# Altium footprint library TH Optoelectronics.PcbLib: 22 footprints (part 2 of 4)
Each footprint in its own frame and in the unit in brackets; x right, y up, seen from the top. Pads: shape width x height; smd on the part's side, far side on the other; paste and mask are expansions set on the pad; w line width, h text height; cw(c..) or ccw(c..) is an arc to the next point about the centre after c.
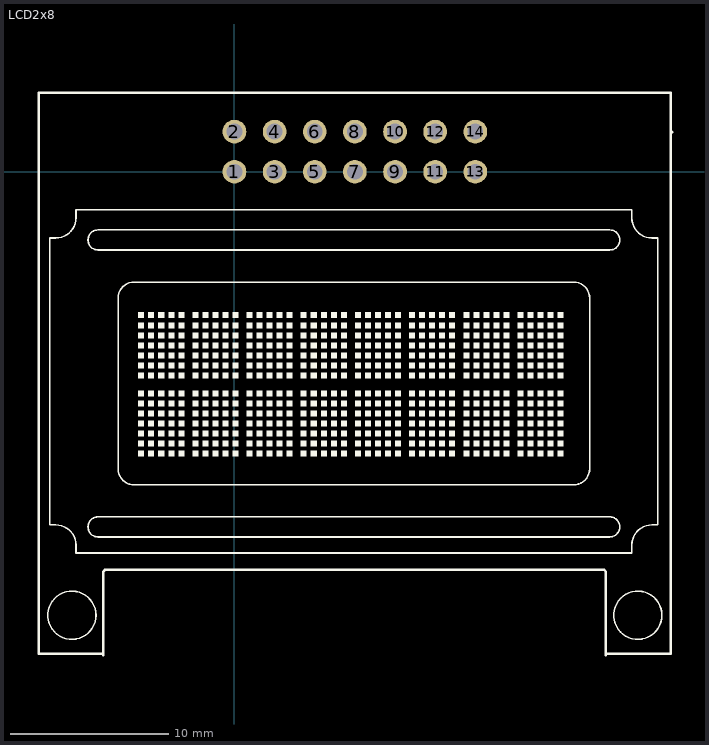
[diagram p1: the footprint, top view; thin cyan lines are the x and y axes]

## LCD2x8 [mm]
pads (14):
  round 1.5 hole 1: 1(0,0) 2(0,2.54) 3(2.54,0) 4(2.54,2.54) 5(5.08,0) 6(5.08,2.54) 7(7.62,0) 8(7.62,2.54) 9(10.16,0) 10(10.16,2.54) 11(12.7,0) 12(12.7,2.54) 13(15.24,0) 14(15.24,2.54)
Top Overlay:
  drawing of 633 lines, arcs and shapes, not listed
3D body: height 4.57, standoff 4.32, extent 6.858,1.778 8.376,3.299
3D body: height 6.1, standoff -3.05, extent 7.315,2.21 7.925,2.87
3D body: height 4.57, standoff 4.32, extent 9.398,1.778 10.916,3.299
3D body: height 6.1, standoff -3.05, extent 9.855,2.21 10.465,2.87
3D body: height 4.57, standoff 4.32, extent 11.938,1.778 13.456,3.299
3D body: height 6.1, standoff -3.05, extent 12.395,2.21 13.005,2.87
3D body: height 4.57, standoff 4.32, extent 14.478,1.778 15.996,3.299
3D body: height 6.1, standoff -3.05, extent 14.935,2.21 15.545,2.87
3D body: height 4.57, standoff 4.32, extent 14.478,-0.762 15.996,0.759
3D body: height 6.1, standoff -3.05, extent 14.935,-0.33 15.545,0.33
3D body: height 4.57, standoff 4.32, extent 11.938,-0.762 13.456,0.759
3D body: height 6.1, standoff -3.05, extent 12.395,-0.33 13.005,0.33
3D body: height 4.57, standoff 4.32, extent 9.398,-0.762 10.916,0.759
3D body: height 6.1, standoff -3.05, extent 9.855,-0.33 10.465,0.33
3D body: height 4.57, standoff 4.32, extent 6.858,-0.762 8.376,0.759
3D body: height 6.1, standoff -3.05, extent 7.315,-0.33 7.925,0.33
3D body: height 4.57, standoff 4.32, extent -0.762,-0.762 0.756,0.759
3D body: height 6.1, standoff -3.05, extent -0.305,-0.33 0.305,0.33
3D body: height 4.57, standoff 4.32, extent 1.778,-0.762 3.296,0.759
3D body: height 6.1, standoff -3.05, extent 2.235,-0.33 2.845,0.33
3D body: height 4.57, standoff 4.32, extent 4.318,-0.762 5.836,0.759
3D body: height 6.1, standoff -3.05, extent 4.775,-0.33 5.385,0.33
3D body: height 4.57, standoff 4.32, extent 4.318,1.778 5.836,3.299
3D body: height 6.1, standoff -3.05, extent 4.775,2.21 5.385,2.87
3D body: height 4.57, standoff 4.32, extent 1.778,1.778 3.296,3.299
3D body: height 6.1, standoff -3.05, extent 2.235,2.21 2.845,2.87
3D body: height 6.1, standoff -3.05, extent -0.305,2.21 0.305,2.87
3D body: height 4.57, standoff 4.32, extent -0.762,1.778 0.756,3.299
3D body: height 7.62, standoff 3.05, extent -11.252,-23.927 26.314,-2.946
3D body: height 4.3, standoff 2.7, extent -12.421,-25.222 27.584,4.978
3D body: height 4.32, standoff 3.05, extent -12.482,-30.516 27.61,-2.794
3D body: height 8.13, standoff 4.32, extent -11.684,-24.13 26.797,-2.413
3D body: height 7.65, standoff 7.62, extent -6.096,-9.271 -5.715,-8.89
3D body: height 7.65, standoff 7.62, extent -5.461,-9.271 -5.08,-8.89
3D body: height 7.65, standoff 7.62, extent -4.826,-9.271 -4.445,-8.89
3D body: height 7.65, standoff 7.62, extent -4.191,-9.271 -3.81,-8.89
3D body: height 7.65, standoff 7.62, extent -3.556,-9.271 -3.175,-8.89
3D body: height 7.65, standoff 7.62, extent -3.556,-9.906 -3.175,-9.525
3D body: height 7.65, standoff 7.62, extent -4.191,-9.906 -3.81,-9.525
3D body: height 7.65, standoff 7.62, extent -4.826,-9.906 -4.445,-9.525
3D body: height 7.65, standoff 7.62, extent -5.461,-9.906 -5.08,-9.525
3D body: height 7.65, standoff 7.62, extent -6.096,-9.906 -5.715,-9.525
3D body: height 7.65, standoff 7.62, extent -3.556,-10.541 -3.175,-10.16
3D body: height 7.65, standoff 7.62, extent -4.191,-10.541 -3.81,-10.16
3D body: height 7.65, standoff 7.62, extent -4.826,-10.541 -4.445,-10.16
3D body: height 7.65, standoff 7.62, extent -5.461,-10.541 -5.08,-10.16
3D body: height 7.65, standoff 7.62, extent -6.096,-10.541 -5.715,-10.16
3D body: height 7.65, standoff 7.62, extent -3.556,-11.176 -3.175,-10.795
3D body: height 7.65, standoff 7.62, extent -4.191,-11.176 -3.81,-10.795
3D body: height 7.65, standoff 7.62, extent -4.826,-11.176 -4.445,-10.795
3D body: height 7.65, standoff 7.62, extent -5.461,-11.176 -5.08,-10.795
3D body: height 7.65, standoff 7.62, extent -6.096,-11.176 -5.715,-10.795
3D body: height 7.65, standoff 7.62, extent -3.556,-11.811 -3.175,-11.43
3D body: height 7.65, standoff 7.62, extent -4.191,-11.811 -3.81,-11.43
3D body: height 7.65, standoff 7.62, extent -4.826,-11.811 -4.445,-11.43
3D body: height 7.65, standoff 7.62, extent -5.461,-11.811 -5.08,-11.43
3D body: height 7.65, standoff 7.62, extent -6.096,-11.811 -5.715,-11.43
3D body: height 7.65, standoff 7.62, extent -3.556,-12.446 -3.175,-12.065
3D body: height 7.65, standoff 7.62, extent -4.191,-12.446 -3.81,-12.065
3D body: height 7.65, standoff 7.62, extent -4.826,-12.446 -4.445,-12.065
3D body: height 7.65, standoff 7.62, extent -5.461,-12.446 -5.08,-12.065
3D body: height 7.65, standoff 7.62, extent -6.096,-12.446 -5.715,-12.065
3D body: height 7.65, standoff 7.62, extent -3.556,-13.081 -3.175,-12.7
3D body: height 7.65, standoff 7.62, extent -4.191,-13.081 -3.81,-12.7
3D body: height 7.65, standoff 7.62, extent -4.826,-13.081 -4.445,-12.7
3D body: height 7.65, standoff 7.62, extent -5.461,-13.081 -5.08,-12.7
3D body: height 7.65, standoff 7.62, extent -6.096,-13.081 -5.715,-12.7
3D body: height 7.65, standoff 7.62, extent -2.667,-13.081 -2.286,-12.7
3D body: height 7.65, standoff 7.62, extent -2.032,-13.081 -1.651,-12.7
3D body: height 7.65, standoff 7.62, extent -1.397,-13.081 -1.016,-12.7
3D body: height 7.65, standoff 7.62, extent -0.762,-13.081 -0.381,-12.7
3D body: height 7.65, standoff 7.62, extent -0.127,-13.081 0.254,-12.7
3D body: height 7.65, standoff 7.62, extent -2.667,-12.446 -2.286,-12.065
3D body: height 7.65, standoff 7.62, extent -2.032,-12.446 -1.651,-12.065
3D body: height 7.65, standoff 7.62, extent -1.397,-12.446 -1.016,-12.065
3D body: height 7.65, standoff 7.62, extent -0.762,-12.446 -0.381,-12.065
3D body: height 7.65, standoff 7.62, extent -0.127,-12.446 0.254,-12.065
3D body: height 7.65, standoff 7.62, extent -2.667,-11.811 -2.286,-11.43
3D body: height 7.65, standoff 7.62, extent -2.032,-11.811 -1.651,-11.43
3D body: height 7.65, standoff 7.62, extent -1.397,-11.811 -1.016,-11.43
3D body: height 7.65, standoff 7.62, extent -0.762,-11.811 -0.381,-11.43
3D body: height 7.65, standoff 7.62, extent -0.127,-11.811 0.254,-11.43
3D body: height 7.65, standoff 7.62, extent -2.667,-11.176 -2.286,-10.795
3D body: height 7.65, standoff 7.62, extent -2.032,-11.176 -1.651,-10.795
3D body: height 7.65, standoff 7.62, extent -1.397,-11.176 -1.016,-10.795
3D body: height 7.65, standoff 7.62, extent -0.762,-11.176 -0.381,-10.795
3D body: height 7.65, standoff 7.62, extent -0.127,-11.176 0.254,-10.795
3D body: height 7.65, standoff 7.62, extent -2.667,-10.541 -2.286,-10.16
3D body: height 7.65, standoff 7.62, extent -2.032,-10.541 -1.651,-10.16
3D body: height 7.65, standoff 7.62, extent -1.397,-10.541 -1.016,-10.16
3D body: height 7.65, standoff 7.62, extent -0.762,-10.541 -0.381,-10.16
3D body: height 7.65, standoff 7.62, extent -0.127,-10.541 0.254,-10.16
3D body: height 7.65, standoff 7.62, extent -2.667,-9.906 -2.286,-9.525
3D body: height 7.65, standoff 7.62, extent -2.032,-9.906 -1.651,-9.525
3D body: height 7.65, standoff 7.62, extent -1.397,-9.906 -1.016,-9.525
3D body: height 7.65, standoff 7.62, extent -0.762,-9.906 -0.381,-9.525
3D body: height 7.65, standoff 7.62, extent -0.127,-9.906 0.254,-9.525
3D body: height 7.65, standoff 7.62, extent -0.127,-9.271 0.254,-8.89
3D body: height 7.65, standoff 7.62, extent -0.762,-9.271 -0.381,-8.89
3D body: height 7.65, standoff 7.62, extent -1.397,-9.271 -1.016,-8.89
3D body: height 7.65, standoff 7.62, extent -2.032,-9.271 -1.651,-8.89
3D body: height 7.65, standoff 7.62, extent -2.667,-9.271 -2.286,-8.89
3D body: height 7.65, standoff 7.62, extent 0.762,-13.081 1.143,-12.7
3D body: height 7.65, standoff 7.62, extent 1.397,-13.081 1.778,-12.7
3D body: height 7.65, standoff 7.62, extent 2.032,-13.081 2.413,-12.7
3D body: height 7.65, standoff 7.62, extent 2.667,-13.081 3.048,-12.7
3D body: height 7.65, standoff 7.62, extent 3.302,-13.081 3.683,-12.7
3D body: height 7.65, standoff 7.62, extent 0.762,-12.446 1.143,-12.065
3D body: height 7.65, standoff 7.62, extent 1.397,-12.446 1.778,-12.065
3D body: height 7.65, standoff 7.62, extent 2.032,-12.446 2.413,-12.065
3D body: height 7.65, standoff 7.62, extent 2.667,-12.446 3.048,-12.065
3D body: height 7.65, standoff 7.62, extent 3.302,-12.446 3.683,-12.065
3D body: height 7.65, standoff 7.62, extent 0.762,-11.811 1.143,-11.43
3D body: height 7.65, standoff 7.62, extent 1.397,-11.811 1.778,-11.43
3D body: height 7.65, standoff 7.62, extent 2.032,-11.811 2.413,-11.43
3D body: height 7.65, standoff 7.62, extent 2.667,-11.811 3.048,-11.43
3D body: height 7.65, standoff 7.62, extent 3.302,-11.811 3.683,-11.43
3D body: height 7.65, standoff 7.62, extent 0.762,-11.176 1.143,-10.795
3D body: height 7.65, standoff 7.62, extent 1.397,-11.176 1.778,-10.795
3D body: height 7.65, standoff 7.62, extent 2.032,-11.176 2.413,-10.795
3D body: height 7.65, standoff 7.62, extent 2.667,-11.176 3.048,-10.795
3D body: height 7.65, standoff 7.62, extent 3.302,-11.176 3.683,-10.795
3D body: height 7.65, standoff 7.62, extent 0.762,-10.541 1.143,-10.16
3D body: height 7.65, standoff 7.62, extent 1.397,-10.541 1.778,-10.16
3D body: height 7.65, standoff 7.62, extent 2.032,-10.541 2.413,-10.16
3D body: height 7.65, standoff 7.62, extent 2.667,-10.541 3.048,-10.16
3D body: height 7.65, standoff 7.62, extent 3.302,-10.541 3.683,-10.16
3D body: height 7.65, standoff 7.62, extent 0.762,-9.906 1.143,-9.525
3D body: height 7.65, standoff 7.62, extent 1.397,-9.906 1.778,-9.525
3D body: height 7.65, standoff 7.62, extent 2.032,-9.906 2.413,-9.525
3D body: height 7.65, standoff 7.62, extent 2.667,-9.906 3.048,-9.525
3D body: height 7.65, standoff 7.62, extent 3.302,-9.906 3.683,-9.525
3D body: height 7.65, standoff 7.62, extent 3.302,-9.271 3.683,-8.89
3D body: height 7.65, standoff 7.62, extent 2.667,-9.271 3.048,-8.89
3D body: height 7.65, standoff 7.62, extent 2.032,-9.271 2.413,-8.89
3D body: height 7.65, standoff 7.62, extent 1.397,-9.271 1.778,-8.89
3D body: height 7.65, standoff 7.62, extent 0.762,-9.271 1.143,-8.89
3D body: height 7.65, standoff 7.62, extent 4.191,-13.081 4.572,-12.7
3D body: height 7.65, standoff 7.62, extent 4.826,-13.081 5.207,-12.7
3D body: height 7.65, standoff 7.62, extent 5.461,-13.081 5.842,-12.7
3D body: height 7.65, standoff 7.62, extent 6.096,-13.081 6.477,-12.7
3D body: height 7.65, standoff 7.62, extent 6.731,-13.081 7.112,-12.7
3D body: height 7.65, standoff 7.62, extent 4.191,-12.446 4.572,-12.065
3D body: height 7.65, standoff 7.62, extent 4.826,-12.446 5.207,-12.065
3D body: height 7.65, standoff 7.62, extent 5.461,-12.446 5.842,-12.065
3D body: height 7.65, standoff 7.62, extent 6.096,-12.446 6.477,-12.065
3D body: height 7.65, standoff 7.62, extent 6.731,-12.446 7.112,-12.065
3D body: height 7.65, standoff 7.62, extent 4.191,-11.811 4.572,-11.43
3D body: height 7.65, standoff 7.62, extent 4.826,-11.811 5.207,-11.43
3D body: height 7.65, standoff 7.62, extent 5.461,-11.811 5.842,-11.43
3D body: height 7.65, standoff 7.62, extent 6.096,-11.811 6.477,-11.43
3D body: height 7.65, standoff 7.62, extent 6.731,-11.811 7.112,-11.43
3D body: height 7.65, standoff 7.62, extent 4.191,-11.176 4.572,-10.795
3D body: height 7.65, standoff 7.62, extent 4.826,-11.176 5.207,-10.795
3D body: height 7.65, standoff 7.62, extent 5.461,-11.176 5.842,-10.795
3D body: height 7.65, standoff 7.62, extent 6.096,-11.176 6.477,-10.795
3D body: height 7.65, standoff 7.62, extent 6.731,-11.176 7.112,-10.795
3D body: height 7.65, standoff 7.62, extent 4.191,-10.541 4.572,-10.16
3D body: height 7.65, standoff 7.62, extent 4.826,-10.541 5.207,-10.16
3D body: height 7.65, standoff 7.62, extent 5.461,-10.541 5.842,-10.16
3D body: height 7.65, standoff 7.62, extent 6.096,-10.541 6.477,-10.16
3D body: height 7.65, standoff 7.62, extent 6.731,-10.541 7.112,-10.16
3D body: height 7.65, standoff 7.62, extent 4.191,-9.906 4.572,-9.525
3D body: height 7.65, standoff 7.62, extent 4.826,-9.906 5.207,-9.525
3D body: height 7.65, standoff 7.62, extent 5.461,-9.906 5.842,-9.525
3D body: height 7.65, standoff 7.62, extent 6.096,-9.906 6.477,-9.525
3D body: height 7.65, standoff 7.62, extent 6.731,-9.906 7.112,-9.525
3D body: height 7.65, standoff 7.62, extent 6.731,-9.271 7.112,-8.89
3D body: height 7.65, standoff 7.62, extent 6.096,-9.271 6.477,-8.89
3D body: height 7.65, standoff 7.62, extent 5.461,-9.271 5.842,-8.89
3D body: height 7.65, standoff 7.62, extent 4.826,-9.271 5.207,-8.89
3D body: height 7.65, standoff 7.62, extent 4.191,-9.271 4.572,-8.89
3D body: height 7.65, standoff 7.62, extent 4.191,-14.224 4.572,-13.843
3D body: height 7.65, standoff 7.62, extent 4.826,-14.224 5.207,-13.843
3D body: height 7.65, standoff 7.62, extent 5.461,-14.224 5.842,-13.843
3D body: height 7.65, standoff 7.62, extent 6.096,-14.224 6.477,-13.843
3D body: height 7.65, standoff 7.62, extent 6.731,-14.224 7.112,-13.843
3D body: height 7.65, standoff 7.62, extent 6.731,-14.859 7.112,-14.478
3D body: height 7.65, standoff 7.62, extent 6.096,-14.859 6.477,-14.478
3D body: height 7.65, standoff 7.62, extent 5.461,-14.859 5.842,-14.478
3D body: height 7.65, standoff 7.62, extent 4.826,-14.859 5.207,-14.478
3D body: height 7.65, standoff 7.62, extent 4.191,-14.859 4.572,-14.478
3D body: height 7.65, standoff 7.62, extent 6.731,-15.494 7.112,-15.113
3D body: height 7.65, standoff 7.62, extent 6.096,-15.494 6.477,-15.113
3D body: height 7.65, standoff 7.62, extent 5.461,-15.494 5.842,-15.113
3D body: height 7.65, standoff 7.62, extent 4.826,-15.494 5.207,-15.113
3D body: height 7.65, standoff 7.62, extent 4.191,-15.494 4.572,-15.113
3D body: height 7.65, standoff 7.62, extent 6.731,-16.129 7.112,-15.748
3D body: height 7.65, standoff 7.62, extent 6.096,-16.129 6.477,-15.748
3D body: height 7.65, standoff 7.62, extent 5.461,-16.129 5.842,-15.748
3D body: height 7.65, standoff 7.62, extent 4.826,-16.129 5.207,-15.748
3D body: height 7.65, standoff 7.62, extent 4.191,-16.129 4.572,-15.748
3D body: height 7.65, standoff 7.62, extent 6.731,-16.764 7.112,-16.383
3D body: height 7.65, standoff 7.62, extent 6.096,-16.764 6.477,-16.383
3D body: height 7.65, standoff 7.62, extent 5.461,-16.764 5.842,-16.383
3D body: height 7.65, standoff 7.62, extent 4.826,-16.764 5.207,-16.383
3D body: height 7.65, standoff 7.62, extent 4.191,-16.764 4.572,-16.383
3D body: height 7.65, standoff 7.62, extent 6.731,-17.399 7.112,-17.018
3D body: height 7.65, standoff 7.62, extent 6.096,-17.399 6.477,-17.018
3D body: height 7.65, standoff 7.62, extent 5.461,-17.399 5.842,-17.018
3D body: height 7.65, standoff 7.62, extent 4.826,-17.399 5.207,-17.018
3D body: height 7.65, standoff 7.62, extent 4.191,-17.399 4.572,-17.018
3D body: height 7.65, standoff 7.62, extent 6.731,-18.034 7.112,-17.653
3D body: height 7.65, standoff 7.62, extent 6.096,-18.034 6.477,-17.653
3D body: height 7.65, standoff 7.62, extent 5.461,-18.034 5.842,-17.653
3D body: height 7.65, standoff 7.62, extent 4.826,-18.034 5.207,-17.653
3D body: height 7.65, standoff 7.62, extent 4.191,-18.034 4.572,-17.653
3D body: height 7.65, standoff 7.62, extent 0.762,-14.224 1.143,-13.843
3D body: height 7.65, standoff 7.62, extent 1.397,-14.224 1.778,-13.843
3D body: height 7.65, standoff 7.62, extent 2.032,-14.224 2.413,-13.843
3D body: height 7.65, standoff 7.62, extent 2.667,-14.224 3.048,-13.843
3D body: height 7.65, standoff 7.62, extent 3.302,-14.224 3.683,-13.843
3D body: height 7.65, standoff 7.62, extent 3.302,-14.859 3.683,-14.478
3D body: height 7.65, standoff 7.62, extent 2.667,-14.859 3.048,-14.478
3D body: height 7.65, standoff 7.62, extent 2.032,-14.859 2.413,-14.478
3D body: height 7.65, standoff 7.62, extent 1.397,-14.859 1.778,-14.478
3D body: height 7.65, standoff 7.62, extent 0.762,-14.859 1.143,-14.478
3D body: height 7.65, standoff 7.62, extent 3.302,-15.494 3.683,-15.113
3D body: height 7.65, standoff 7.62, extent 2.667,-15.494 3.048,-15.113
3D body: height 7.65, standoff 7.62, extent 2.032,-15.494 2.413,-15.113
3D body: height 7.65, standoff 7.62, extent 1.397,-15.494 1.778,-15.113
3D body: height 7.65, standoff 7.62, extent 0.762,-15.494 1.143,-15.113
3D body: height 7.65, standoff 7.62, extent 3.302,-16.129 3.683,-15.748
3D body: height 7.65, standoff 7.62, extent 2.667,-16.129 3.048,-15.748
3D body: height 7.65, standoff 7.62, extent 2.032,-16.129 2.413,-15.748
3D body: height 7.65, standoff 7.62, extent 1.397,-16.129 1.778,-15.748
3D body: height 7.65, standoff 7.62, extent 0.762,-16.129 1.143,-15.748
3D body: height 7.65, standoff 7.62, extent 3.302,-16.764 3.683,-16.383
3D body: height 7.65, standoff 7.62, extent 2.667,-16.764 3.048,-16.383
3D body: height 7.65, standoff 7.62, extent 2.032,-16.764 2.413,-16.383
3D body: height 7.65, standoff 7.62, extent 1.397,-16.764 1.778,-16.383
3D body: height 7.65, standoff 7.62, extent 0.762,-16.764 1.143,-16.383
3D body: height 7.65, standoff 7.62, extent 3.302,-17.399 3.683,-17.018
3D body: height 7.65, standoff 7.62, extent 2.667,-17.399 3.048,-17.018
3D body: height 7.65, standoff 7.62, extent 2.032,-17.399 2.413,-17.018
3D body: height 7.65, standoff 7.62, extent 1.397,-17.399 1.778,-17.018
3D body: height 7.65, standoff 7.62, extent 0.762,-17.399 1.143,-17.018
3D body: height 7.65, standoff 7.62, extent 3.302,-18.034 3.683,-17.653
3D body: height 7.65, standoff 7.62, extent 2.667,-18.034 3.048,-17.653
3D body: height 7.65, standoff 7.62, extent 2.032,-18.034 2.413,-17.653
3D body: height 7.65, standoff 7.62, extent 1.397,-18.034 1.778,-17.653
3D body: height 7.65, standoff 7.62, extent 0.762,-18.034 1.143,-17.653
3D body: height 7.65, standoff 7.62, extent -2.667,-14.224 -2.286,-13.843
3D body: height 7.65, standoff 7.62, extent -2.032,-14.224 -1.651,-13.843
3D body: height 7.65, standoff 7.62, extent -1.397,-14.224 -1.016,-13.843
3D body: height 7.65, standoff 7.62, extent -0.762,-14.224 -0.381,-13.843
3D body: height 7.65, standoff 7.62, extent -0.127,-14.224 0.254,-13.843
3D body: height 7.65, standoff 7.62, extent -0.127,-14.859 0.254,-14.478
3D body: height 7.65, standoff 7.62, extent -0.762,-14.859 -0.381,-14.478
3D body: height 7.65, standoff 7.62, extent -1.397,-14.859 -1.016,-14.478
3D body: height 7.65, standoff 7.62, extent -2.032,-14.859 -1.651,-14.478
3D body: height 7.65, standoff 7.62, extent -2.667,-14.859 -2.286,-14.478
3D body: height 7.65, standoff 7.62, extent -0.127,-15.494 0.254,-15.113
3D body: height 7.65, standoff 7.62, extent -0.762,-15.494 -0.381,-15.113
3D body: height 7.65, standoff 7.62, extent -1.397,-15.494 -1.016,-15.113
3D body: height 7.65, standoff 7.62, extent -2.032,-15.494 -1.651,-15.113
3D body: height 7.65, standoff 7.62, extent -2.667,-15.494 -2.286,-15.113
3D body: height 7.65, standoff 7.62, extent -0.127,-16.129 0.254,-15.748
3D body: height 7.65, standoff 7.62, extent -0.762,-16.129 -0.381,-15.748
3D body: height 7.65, standoff 7.62, extent -1.397,-16.129 -1.016,-15.748
3D body: height 7.65, standoff 7.62, extent -2.032,-16.129 -1.651,-15.748
3D body: height 7.65, standoff 7.62, extent -2.667,-16.129 -2.286,-15.748
3D body: height 7.65, standoff 7.62, extent -0.127,-16.764 0.254,-16.383
3D body: height 7.65, standoff 7.62, extent -0.762,-16.764 -0.381,-16.383
3D body: height 7.65, standoff 7.62, extent -1.397,-16.764 -1.016,-16.383
3D body: height 7.65, standoff 7.62, extent -2.032,-16.764 -1.651,-16.383
3D body: height 7.65, standoff 7.62, extent -2.667,-16.764 -2.286,-16.383
3D body: height 7.65, standoff 7.62, extent -0.127,-17.399 0.254,-17.018
3D body: height 7.65, standoff 7.62, extent -0.762,-17.399 -0.381,-17.018
3D body: height 7.65, standoff 7.62, extent -1.397,-17.399 -1.016,-17.018
3D body: height 7.65, standoff 7.62, extent -2.032,-17.399 -1.651,-17.018
3D body: height 7.65, standoff 7.62, extent -2.667,-17.399 -2.286,-17.018
3D body: height 7.65, standoff 7.62, extent -0.127,-18.034 0.254,-17.653
3D body: height 7.65, standoff 7.62, extent -0.762,-18.034 -0.381,-17.653
3D body: height 7.65, standoff 7.62, extent -1.397,-18.034 -1.016,-17.653
3D body: height 7.65, standoff 7.62, extent -2.032,-18.034 -1.651,-17.653
3D body: height 7.65, standoff 7.62, extent -2.667,-18.034 -2.286,-17.653
3D body: height 7.65, standoff 7.62, extent -6.096,-18.034 -5.715,-17.653
3D body: height 7.65, standoff 7.62, extent -5.461,-18.034 -5.08,-17.653
3D body: height 7.65, standoff 7.62, extent -4.826,-18.034 -4.445,-17.653
3D body: height 7.65, standoff 7.62, extent -4.191,-18.034 -3.81,-17.653
3D body: height 7.65, standoff 7.62, extent -3.556,-18.034 -3.175,-17.653
3D body: height 7.65, standoff 7.62, extent -6.096,-17.399 -5.715,-17.018
3D body: height 7.65, standoff 7.62, extent -5.461,-17.399 -5.08,-17.018
3D body: height 7.65, standoff 7.62, extent -4.826,-17.399 -4.445,-17.018
3D body: height 7.65, standoff 7.62, extent -4.191,-17.399 -3.81,-17.018
3D body: height 7.65, standoff 7.62, extent -3.556,-17.399 -3.175,-17.018
3D body: height 7.65, standoff 7.62, extent -6.096,-16.764 -5.715,-16.383
3D body: height 7.65, standoff 7.62, extent -5.461,-16.764 -5.08,-16.383
3D body: height 7.65, standoff 7.62, extent -4.826,-16.764 -4.445,-16.383
3D body: height 7.65, standoff 7.62, extent -4.191,-16.764 -3.81,-16.383
3D body: height 7.65, standoff 7.62, extent -3.556,-16.764 -3.175,-16.383
3D body: height 7.65, standoff 7.62, extent -6.096,-16.129 -5.715,-15.748
3D body: height 7.65, standoff 7.62, extent -5.461,-16.129 -5.08,-15.748
3D body: height 7.65, standoff 7.62, extent -4.826,-16.129 -4.445,-15.748
3D body: height 7.65, standoff 7.62, extent -4.191,-16.129 -3.81,-15.748
3D body: height 7.65, standoff 7.62, extent -3.556,-16.129 -3.175,-15.748
3D body: height 7.65, standoff 7.62, extent -6.096,-15.494 -5.715,-15.113
3D body: height 7.65, standoff 7.62, extent -5.461,-15.494 -5.08,-15.113
3D body: height 7.65, standoff 7.62, extent -4.826,-15.494 -4.445,-15.113
3D body: height 7.65, standoff 7.62, extent -4.191,-15.494 -3.81,-15.113
3D body: height 7.65, standoff 7.62, extent -3.556,-15.494 -3.175,-15.113
3D body: height 7.65, standoff 7.62, extent -6.096,-14.859 -5.715,-14.478
3D body: height 7.65, standoff 7.62, extent -5.461,-14.859 -5.08,-14.478
3D body: height 7.65, standoff 7.62, extent -4.826,-14.859 -4.445,-14.478
3D body: height 7.65, standoff 7.62, extent -4.191,-14.859 -3.81,-14.478
3D body: height 7.65, standoff 7.62, extent -3.556,-14.859 -3.175,-14.478
3D body: height 7.65, standoff 7.62, extent -3.556,-14.224 -3.175,-13.843
3D body: height 7.65, standoff 7.62, extent -4.191,-14.224 -3.81,-13.843
3D body: height 7.65, standoff 7.62, extent -4.826,-14.224 -4.445,-13.843
3D body: height 7.65, standoff 7.62, extent -5.461,-14.224 -5.08,-13.843
3D body: height 7.65, standoff 7.62, extent -6.096,-14.224 -5.715,-13.843
3D body: height 7.65, standoff 7.62, extent 17.907,-14.224 18.288,-13.843
3D body: height 7.65, standoff 7.62, extent 18.542,-14.224 18.923,-13.843
3D body: height 7.65, standoff 7.62, extent 19.177,-14.224 19.558,-13.843
3D body: height 7.65, standoff 7.62, extent 19.812,-14.224 20.193,-13.843
3D body: height 7.65, standoff 7.62, extent 20.447,-14.224 20.828,-13.843
3D body: height 7.65, standoff 7.62, extent 20.447,-14.859 20.828,-14.478
3D body: height 7.65, standoff 7.62, extent 19.812,-14.859 20.193,-14.478
3D body: height 7.65, standoff 7.62, extent 19.177,-14.859 19.558,-14.478
3D body: height 7.65, standoff 7.62, extent 18.542,-14.859 18.923,-14.478
3D body: height 7.65, standoff 7.62, extent 17.907,-14.859 18.288,-14.478
3D body: height 7.65, standoff 7.62, extent 20.447,-15.494 20.828,-15.113
3D body: height 7.65, standoff 7.62, extent 19.812,-15.494 20.193,-15.113
3D body: height 7.65, standoff 7.62, extent 19.177,-15.494 19.558,-15.113
3D body: height 7.65, standoff 7.62, extent 18.542,-15.494 18.923,-15.113
3D body: height 7.65, standoff 7.62, extent 17.907,-15.494 18.288,-15.113
3D body: height 7.65, standoff 7.62, extent 20.447,-16.129 20.828,-15.748
3D body: height 7.65, standoff 7.62, extent 19.812,-16.129 20.193,-15.748
3D body: height 7.65, standoff 7.62, extent 19.177,-16.129 19.558,-15.748
3D body: height 7.65, standoff 7.62, extent 18.542,-16.129 18.923,-15.748
3D body: height 7.65, standoff 7.62, extent 17.907,-16.129 18.288,-15.748
3D body: height 7.65, standoff 7.62, extent 20.447,-16.764 20.828,-16.383
3D body: height 7.65, standoff 7.62, extent 19.812,-16.764 20.193,-16.383
3D body: height 7.65, standoff 7.62, extent 19.177,-16.764 19.558,-16.383
3D body: height 7.65, standoff 7.62, extent 18.542,-16.764 18.923,-16.383
3D body: height 7.65, standoff 7.62, extent 17.907,-16.764 18.288,-16.383
3D body: height 7.65, standoff 7.62, extent 20.447,-17.399 20.828,-17.018
3D body: height 7.65, standoff 7.62, extent 19.812,-17.399 20.193,-17.018
3D body: height 7.65, standoff 7.62, extent 19.177,-17.399 19.558,-17.018
3D body: height 7.65, standoff 7.62, extent 18.542,-17.399 18.923,-17.018
3D body: height 7.65, standoff 7.62, extent 17.907,-17.399 18.288,-17.018
3D body: height 7.65, standoff 7.62, extent 20.447,-18.034 20.828,-17.653
3D body: height 7.65, standoff 7.62, extent 19.812,-18.034 20.193,-17.653
3D body: height 7.65, standoff 7.62, extent 19.177,-18.034 19.558,-17.653
3D body: height 7.65, standoff 7.62, extent 18.542,-18.034 18.923,-17.653
3D body: height 7.65, standoff 7.62, extent 17.907,-18.034 18.288,-17.653
3D body: height 7.65, standoff 7.62, extent 14.478,-14.224 14.859,-13.843
3D body: height 7.65, standoff 7.62, extent 15.113,-14.224 15.494,-13.843
3D body: height 7.65, standoff 7.62, extent 15.748,-14.224 16.129,-13.843
3D body: height 7.65, standoff 7.62, extent 16.383,-14.224 16.764,-13.843
3D body: height 7.65, standoff 7.62, extent 17.018,-14.224 17.399,-13.843
3D body: height 7.65, standoff 7.62, extent 17.018,-14.859 17.399,-14.478
3D body: height 7.65, standoff 7.62, extent 16.383,-14.859 16.764,-14.478
3D body: height 7.65, standoff 7.62, extent 15.748,-14.859 16.129,-14.478
3D body: height 7.65, standoff 7.62, extent 15.113,-14.859 15.494,-14.478
3D body: height 7.65, standoff 7.62, extent 14.478,-14.859 14.859,-14.478
3D body: height 7.65, standoff 7.62, extent 17.018,-15.494 17.399,-15.113
3D body: height 7.65, standoff 7.62, extent 16.383,-15.494 16.764,-15.113
3D body: height 7.65, standoff 7.62, extent 15.748,-15.494 16.129,-15.113
3D body: height 7.65, standoff 7.62, extent 15.113,-15.494 15.494,-15.113
3D body: height 7.65, standoff 7.62, extent 14.478,-15.494 14.859,-15.113
3D body: height 7.65, standoff 7.62, extent 17.018,-16.129 17.399,-15.748
3D body: height 7.65, standoff 7.62, extent 16.383,-16.129 16.764,-15.748
3D body: height 7.65, standoff 7.62, extent 15.748,-16.129 16.129,-15.748
3D body: height 7.65, standoff 7.62, extent 15.113,-16.129 15.494,-15.748
3D body: height 7.65, standoff 7.62, extent 14.478,-16.129 14.859,-15.748
3D body: height 7.65, standoff 7.62, extent 17.018,-16.764 17.399,-16.383
3D body: height 7.65, standoff 7.62, extent 16.383,-16.764 16.764,-16.383
3D body: height 7.65, standoff 7.62, extent 15.748,-16.764 16.129,-16.383
3D body: height 7.65, standoff 7.62, extent 15.113,-16.764 15.494,-16.383
3D body: height 7.65, standoff 7.62, extent 14.478,-16.764 14.859,-16.383
3D body: height 7.65, standoff 7.62, extent 17.018,-17.399 17.399,-17.018
3D body: height 7.65, standoff 7.62, extent 16.383,-17.399 16.764,-17.018
3D body: height 7.65, standoff 7.62, extent 15.748,-17.399 16.129,-17.018
3D body: height 7.65, standoff 7.62, extent 15.113,-17.399 15.494,-17.018
3D body: height 7.65, standoff 7.62, extent 14.478,-17.399 14.859,-17.018
3D body: height 7.65, standoff 7.62, extent 17.018,-18.034 17.399,-17.653
3D body: height 7.65, standoff 7.62, extent 16.383,-18.034 16.764,-17.653
3D body: height 7.65, standoff 7.62, extent 15.748,-18.034 16.129,-17.653
3D body: height 7.65, standoff 7.62, extent 15.113,-18.034 15.494,-17.653
3D body: height 7.65, standoff 7.62, extent 14.478,-18.034 14.859,-17.653
3D body: height 7.65, standoff 7.62, extent 11.049,-14.224 11.43,-13.843
3D body: height 7.65, standoff 7.62, extent 11.684,-14.224 12.065,-13.843
3D body: height 7.65, standoff 7.62, extent 12.319,-14.224 12.7,-13.843
3D body: height 7.65, standoff 7.62, extent 12.954,-14.224 13.335,-13.843
3D body: height 7.65, standoff 7.62, extent 13.589,-14.224 13.97,-13.843
3D body: height 7.65, standoff 7.62, extent 13.589,-14.859 13.97,-14.478
3D body: height 7.65, standoff 7.62, extent 12.954,-14.859 13.335,-14.478
3D body: height 7.65, standoff 7.62, extent 12.319,-14.859 12.7,-14.478
3D body: height 7.65, standoff 7.62, extent 11.684,-14.859 12.065,-14.478
3D body: height 7.65, standoff 7.62, extent 11.049,-14.859 11.43,-14.478
3D body: height 7.65, standoff 7.62, extent 13.589,-15.494 13.97,-15.113
3D body: height 7.65, standoff 7.62, extent 12.954,-15.494 13.335,-15.113
3D body: height 7.65, standoff 7.62, extent 12.319,-15.494 12.7,-15.113
3D body: height 7.65, standoff 7.62, extent 11.684,-15.494 12.065,-15.113
3D body: height 7.65, standoff 7.62, extent 11.049,-15.494 11.43,-15.113
3D body: height 7.65, standoff 7.62, extent 13.589,-16.129 13.97,-15.748
3D body: height 7.65, standoff 7.62, extent 12.954,-16.129 13.335,-15.748
3D body: height 7.65, standoff 7.62, extent 12.319,-16.129 12.7,-15.748
3D body: height 7.65, standoff 7.62, extent 11.684,-16.129 12.065,-15.748
3D body: height 7.65, standoff 7.62, extent 11.049,-16.129 11.43,-15.748
3D body: height 7.65, standoff 7.62, extent 13.589,-16.764 13.97,-16.383
3D body: height 7.65, standoff 7.62, extent 12.954,-16.764 13.335,-16.383
3D body: height 7.65, standoff 7.62, extent 12.319,-16.764 12.7,-16.383
3D body: height 7.65, standoff 7.62, extent 11.684,-16.764 12.065,-16.383
3D body: height 7.65, standoff 7.62, extent 11.049,-16.764 11.43,-16.383
3D body: height 7.65, standoff 7.62, extent 13.589,-17.399 13.97,-17.018
3D body: height 7.65, standoff 7.62, extent 12.954,-17.399 13.335,-17.018
3D body: height 7.65, standoff 7.62, extent 12.319,-17.399 12.7,-17.018
3D body: height 7.65, standoff 7.62, extent 11.684,-17.399 12.065,-17.018
3D body: height 7.65, standoff 7.62, extent 11.049,-17.399 11.43,-17.018
3D body: height 7.65, standoff 7.62, extent 13.589,-18.034 13.97,-17.653
3D body: height 7.65, standoff 7.62, extent 12.954,-18.034 13.335,-17.653
3D body: height 7.65, standoff 7.62, extent 12.319,-18.034 12.7,-17.653
3D body: height 7.65, standoff 7.62, extent 11.684,-18.034 12.065,-17.653
3D body: height 7.65, standoff 7.62, extent 11.049,-18.034 11.43,-17.653
3D body: height 7.65, standoff 7.62, extent 7.62,-18.034 8.001,-17.653
3D body: height 7.65, standoff 7.62, extent 8.255,-18.034 8.636,-17.653
3D body: height 7.65, standoff 7.62, extent 8.89,-18.034 9.271,-17.653
3D body: height 7.65, standoff 7.62, extent 9.525,-18.034 9.906,-17.653
3D body: height 7.65, standoff 7.62, extent 10.16,-18.034 10.541,-17.653
3D body: height 7.65, standoff 7.62, extent 7.62,-17.399 8.001,-17.018
3D body: height 7.65, standoff 7.62, extent 8.255,-17.399 8.636,-17.018
3D body: height 7.65, standoff 7.62, extent 8.89,-17.399 9.271,-17.018
3D body: height 7.65, standoff 7.62, extent 9.525,-17.399 9.906,-17.018
3D body: height 7.65, standoff 7.62, extent 10.16,-17.399 10.541,-17.018
3D body: height 7.65, standoff 7.62, extent 7.62,-16.764 8.001,-16.383
3D body: height 7.65, standoff 7.62, extent 8.255,-16.764 8.636,-16.383
3D body: height 7.65, standoff 7.62, extent 8.89,-16.764 9.271,-16.383
3D body: height 7.65, standoff 7.62, extent 9.525,-16.764 9.906,-16.383
3D body: height 7.65, standoff 7.62, extent 10.16,-16.764 10.541,-16.383
3D body: height 7.65, standoff 7.62, extent 7.62,-16.129 8.001,-15.748
3D body: height 7.65, standoff 7.62, extent 8.255,-16.129 8.636,-15.748
3D body: height 7.65, standoff 7.62, extent 8.89,-16.129 9.271,-15.748
3D body: height 7.65, standoff 7.62, extent 9.525,-16.129 9.906,-15.748
3D body: height 7.65, standoff 7.62, extent 10.16,-16.129 10.541,-15.748
3D body: height 7.65, standoff 7.62, extent 7.62,-15.494 8.001,-15.113
3D body: height 7.65, standoff 7.62, extent 8.255,-15.494 8.636,-15.113
3D body: height 7.65, standoff 7.62, extent 8.89,-15.494 9.271,-15.113
3D body: height 7.65, standoff 7.62, extent 9.525,-15.494 9.906,-15.113
3D body: height 7.65, standoff 7.62, extent 10.16,-15.494 10.541,-15.113
3D body: height 7.65, standoff 7.62, extent 7.62,-14.859 8.001,-14.478
3D body: height 7.65, standoff 7.62, extent 8.255,-14.859 8.636,-14.478
3D body: height 7.65, standoff 7.62, extent 8.89,-14.859 9.271,-14.478
3D body: height 7.65, standoff 7.62, extent 9.525,-14.859 9.906,-14.478
3D body: height 7.65, standoff 7.62, extent 10.16,-14.859 10.541,-14.478
3D body: height 7.65, standoff 7.62, extent 10.16,-14.224 10.541,-13.843
3D body: height 7.65, standoff 7.62, extent 9.525,-14.224 9.906,-13.843
3D body: height 7.65, standoff 7.62, extent 8.89,-14.224 9.271,-13.843
3D body: height 7.65, standoff 7.62, extent 8.255,-14.224 8.636,-13.843
3D body: height 7.65, standoff 7.62, extent 7.62,-14.224 8.001,-13.843
3D body: height 7.65, standoff 7.62, extent 17.907,-9.271 18.288,-8.89
3D body: height 7.65, standoff 7.62, extent 18.542,-9.271 18.923,-8.89
3D body: height 7.65, standoff 7.62, extent 19.177,-9.271 19.558,-8.89
3D body: height 7.65, standoff 7.62, extent 19.812,-9.271 20.193,-8.89
3D body: height 7.65, standoff 7.62, extent 20.447,-9.271 20.828,-8.89
3D body: height 7.65, standoff 7.62, extent 20.447,-9.906 20.828,-9.525
3D body: height 7.65, standoff 7.62, extent 19.812,-9.906 20.193,-9.525
3D body: height 7.65, standoff 7.62, extent 19.177,-9.906 19.558,-9.525
3D body: height 7.65, standoff 7.62, extent 18.542,-9.906 18.923,-9.525
3D body: height 7.65, standoff 7.62, extent 17.907,-9.906 18.288,-9.525
3D body: height 7.65, standoff 7.62, extent 20.447,-10.541 20.828,-10.16
3D body: height 7.65, standoff 7.62, extent 19.812,-10.541 20.193,-10.16
3D body: height 7.65, standoff 7.62, extent 19.177,-10.541 19.558,-10.16
3D body: height 7.65, standoff 7.62, extent 18.542,-10.541 18.923,-10.16
3D body: height 7.65, standoff 7.62, extent 17.907,-10.541 18.288,-10.16
3D body: height 7.65, standoff 7.62, extent 20.447,-11.176 20.828,-10.795
3D body: height 7.65, standoff 7.62, extent 19.812,-11.176 20.193,-10.795
3D body: height 7.65, standoff 7.62, extent 19.177,-11.176 19.558,-10.795
3D body: height 7.65, standoff 7.62, extent 18.542,-11.176 18.923,-10.795
3D body: height 7.65, standoff 7.62, extent 17.907,-11.176 18.288,-10.795
3D body: height 7.65, standoff 7.62, extent 20.447,-11.811 20.828,-11.43
3D body: height 7.65, standoff 7.62, extent 19.812,-11.811 20.193,-11.43
3D body: height 7.65, standoff 7.62, extent 19.177,-11.811 19.558,-11.43
3D body: height 7.65, standoff 7.62, extent 18.542,-11.811 18.923,-11.43
3D body: height 7.65, standoff 7.62, extent 17.907,-11.811 18.288,-11.43
3D body: height 7.65, standoff 7.62, extent 20.447,-12.446 20.828,-12.065
3D body: height 7.65, standoff 7.62, extent 19.812,-12.446 20.193,-12.065
3D body: height 7.65, standoff 7.62, extent 19.177,-12.446 19.558,-12.065
3D body: height 7.65, standoff 7.62, extent 18.542,-12.446 18.923,-12.065
3D body: height 7.65, standoff 7.62, extent 17.907,-12.446 18.288,-12.065
3D body: height 7.65, standoff 7.62, extent 20.447,-13.081 20.828,-12.7
3D body: height 7.65, standoff 7.62, extent 19.812,-13.081 20.193,-12.7
3D body: height 7.65, standoff 7.62, extent 19.177,-13.081 19.558,-12.7
3D body: height 7.65, standoff 7.62, extent 18.542,-13.081 18.923,-12.7
3D body: height 7.65, standoff 7.62, extent 17.907,-13.081 18.288,-12.7
3D body: height 7.65, standoff 7.62, extent 14.478,-9.271 14.859,-8.89
3D body: height 7.65, standoff 7.62, extent 15.113,-9.271 15.494,-8.89
3D body: height 7.65, standoff 7.62, extent 15.748,-9.271 16.129,-8.89
3D body: height 7.65, standoff 7.62, extent 16.383,-9.271 16.764,-8.89
3D body: height 7.65, standoff 7.62, extent 17.018,-9.271 17.399,-8.89
3D body: height 7.65, standoff 7.62, extent 17.018,-9.906 17.399,-9.525
3D body: height 7.65, standoff 7.62, extent 16.383,-9.906 16.764,-9.525
3D body: height 7.65, standoff 7.62, extent 15.748,-9.906 16.129,-9.525
3D body: height 7.65, standoff 7.62, extent 15.113,-9.906 15.494,-9.525
3D body: height 7.65, standoff 7.62, extent 14.478,-9.906 14.859,-9.525
3D body: height 7.65, standoff 7.62, extent 17.018,-10.541 17.399,-10.16
3D body: height 7.65, standoff 7.62, extent 16.383,-10.541 16.764,-10.16
3D body: height 7.65, standoff 7.62, extent 15.748,-10.541 16.129,-10.16
3D body: height 7.65, standoff 7.62, extent 15.113,-10.541 15.494,-10.16
3D body: height 7.65, standoff 7.62, extent 14.478,-10.541 14.859,-10.16
3D body: height 7.65, standoff 7.62, extent 17.018,-11.176 17.399,-10.795
3D body: height 7.65, standoff 7.62, extent 16.383,-11.176 16.764,-10.795
3D body: height 7.65, standoff 7.62, extent 15.748,-11.176 16.129,-10.795
3D body: height 7.65, standoff 7.62, extent 15.113,-11.176 15.494,-10.795
3D body: height 7.65, standoff 7.62, extent 14.478,-11.176 14.859,-10.795
3D body: height 7.65, standoff 7.62, extent 17.018,-11.811 17.399,-11.43
3D body: height 7.65, standoff 7.62, extent 16.383,-11.811 16.764,-11.43
3D body: height 7.65, standoff 7.62, extent 15.748,-11.811 16.129,-11.43
3D body: height 7.65, standoff 7.62, extent 15.113,-11.811 15.494,-11.43
3D body: height 7.65, standoff 7.62, extent 14.478,-11.811 14.859,-11.43
3D body: height 7.65, standoff 7.62, extent 17.018,-12.446 17.399,-12.065
3D body: height 7.65, standoff 7.62, extent 16.383,-12.446 16.764,-12.065
3D body: height 7.65, standoff 7.62, extent 15.748,-12.446 16.129,-12.065
3D body: height 7.65, standoff 7.62, extent 15.113,-12.446 15.494,-12.065
3D body: height 7.65, standoff 7.62, extent 14.478,-12.446 14.859,-12.065
3D body: height 7.65, standoff 7.62, extent 17.018,-13.081 17.399,-12.7
3D body: height 7.65, standoff 7.62, extent 16.383,-13.081 16.764,-12.7
3D body: height 7.65, standoff 7.62, extent 15.748,-13.081 16.129,-12.7
3D body: height 7.65, standoff 7.62, extent 15.113,-13.081 15.494,-12.7
3D body: height 7.65, standoff 7.62, extent 14.478,-13.081 14.859,-12.7
3D body: height 7.65, standoff 7.62, extent 11.049,-9.271 11.43,-8.89
3D body: height 7.65, standoff 7.62, extent 11.684,-9.271 12.065,-8.89
3D body: height 7.65, standoff 7.62, extent 12.319,-9.271 12.7,-8.89
3D body: height 7.65, standoff 7.62, extent 12.954,-9.271 13.335,-8.89
3D body: height 7.65, standoff 7.62, extent 13.589,-9.271 13.97,-8.89
3D body: height 7.65, standoff 7.62, extent 13.589,-9.906 13.97,-9.525
3D body: height 7.65, standoff 7.62, extent 12.954,-9.906 13.335,-9.525
3D body: height 7.65, standoff 7.62, extent 12.319,-9.906 12.7,-9.525
3D body: height 7.65, standoff 7.62, extent 11.684,-9.906 12.065,-9.525
3D body: height 7.65, standoff 7.62, extent 11.049,-9.906 11.43,-9.525
3D body: height 7.65, standoff 7.62, extent 13.589,-10.541 13.97,-10.16
3D body: height 7.65, standoff 7.62, extent 12.954,-10.541 13.335,-10.16
3D body: height 7.65, standoff 7.62, extent 12.319,-10.541 12.7,-10.16
3D body: height 7.65, standoff 7.62, extent 11.684,-10.541 12.065,-10.16
3D body: height 7.65, standoff 7.62, extent 11.049,-10.541 11.43,-10.16
3D body: height 7.65, standoff 7.62, extent 13.589,-11.176 13.97,-10.795
3D body: height 7.65, standoff 7.62, extent 12.954,-11.176 13.335,-10.795
3D body: height 7.65, standoff 7.62, extent 12.319,-11.176 12.7,-10.795
3D body: height 7.65, standoff 7.62, extent 11.684,-11.176 12.065,-10.795
3D body: height 7.65, standoff 7.62, extent 11.049,-11.176 11.43,-10.795
3D body: height 7.65, standoff 7.62, extent 13.589,-11.811 13.97,-11.43
3D body: height 7.65, standoff 7.62, extent 12.954,-11.811 13.335,-11.43
3D body: height 7.65, standoff 7.62, extent 12.319,-11.811 12.7,-11.43
3D body: height 7.65, standoff 7.62, extent 11.684,-11.811 12.065,-11.43
3D body: height 7.65, standoff 7.62, extent 11.049,-11.811 11.43,-11.43
3D body: height 7.65, standoff 7.62, extent 13.589,-12.446 13.97,-12.065
3D body: height 7.65, standoff 7.62, extent 12.954,-12.446 13.335,-12.065
3D body: height 7.65, standoff 7.62, extent 12.319,-12.446 12.7,-12.065
3D body: height 7.65, standoff 7.62, extent 11.684,-12.446 12.065,-12.065
3D body: height 7.65, standoff 7.62, extent 11.049,-12.446 11.43,-12.065
3D body: height 7.65, standoff 7.62, extent 13.589,-13.081 13.97,-12.7
3D body: height 7.65, standoff 7.62, extent 12.954,-13.081 13.335,-12.7
3D body: height 7.65, standoff 7.62, extent 12.319,-13.081 12.7,-12.7
3D body: height 7.65, standoff 7.62, extent 11.684,-13.081 12.065,-12.7
3D body: height 7.65, standoff 7.62, extent 11.049,-13.081 11.43,-12.7
3D body: height 7.65, standoff 7.62, extent 7.62,-13.081 8.001,-12.7
3D body: height 7.65, standoff 7.62, extent 8.255,-13.081 8.636,-12.7
3D body: height 7.65, standoff 7.62, extent 8.89,-13.081 9.271,-12.7
3D body: height 7.65, standoff 7.62, extent 9.525,-13.081 9.906,-12.7
3D body: height 7.65, standoff 7.62, extent 10.16,-13.081 10.541,-12.7
3D body: height 7.65, standoff 7.62, extent 7.62,-12.446 8.001,-12.065
3D body: height 7.65, standoff 7.62, extent 8.255,-12.446 8.636,-12.065
3D body: height 7.65, standoff 7.62, extent 8.89,-12.446 9.271,-12.065
3D body: height 7.65, standoff 7.62, extent 9.525,-12.446 9.906,-12.065
3D body: height 7.65, standoff 7.62, extent 10.16,-12.446 10.541,-12.065
3D body: height 7.65, standoff 7.62, extent 7.62,-11.811 8.001,-11.43
3D body: height 7.65, standoff 7.62, extent 8.255,-11.811 8.636,-11.43
3D body: height 7.65, standoff 7.62, extent 8.89,-11.811 9.271,-11.43
3D body: height 7.65, standoff 7.62, extent 9.525,-11.811 9.906,-11.43
3D body: height 7.65, standoff 7.62, extent 10.16,-11.811 10.541,-11.43
3D body: height 7.65, standoff 7.62, extent 7.62,-11.176 8.001,-10.795
3D body: height 7.65, standoff 7.62, extent 8.255,-11.176 8.636,-10.795
3D body: height 7.65, standoff 7.62, extent 8.89,-11.176 9.271,-10.795
3D body: height 7.65, standoff 7.62, extent 9.525,-11.176 9.906,-10.795
3D body: height 7.65, standoff 7.62, extent 10.16,-11.176 10.541,-10.795
3D body: height 7.65, standoff 7.62, extent 7.62,-10.541 8.001,-10.16
3D body: height 7.65, standoff 7.62, extent 8.255,-10.541 8.636,-10.16
3D body: height 7.65, standoff 7.62, extent 8.89,-10.541 9.271,-10.16
3D body: height 7.65, standoff 7.62, extent 9.525,-10.541 9.906,-10.16
3D body: height 7.65, standoff 7.62, extent 10.16,-10.541 10.541,-10.16
3D body: height 7.65, standoff 7.62, extent 7.62,-9.906 8.001,-9.525
3D body: height 7.65, standoff 7.62, extent 8.255,-9.906 8.636,-9.525
3D body: height 7.65, standoff 7.62, extent 8.89,-9.906 9.271,-9.525
3D body: height 7.65, standoff 7.62, extent 9.525,-9.906 9.906,-9.525
3D body: height 7.65, standoff 7.62, extent 10.16,-9.906 10.541,-9.525
3D body: height 7.65, standoff 7.62, extent 10.16,-9.271 10.541,-8.89
3D body: height 7.65, standoff 7.62, extent 9.525,-9.271 9.906,-8.89
3D body: height 7.65, standoff 7.62, extent 8.89,-9.271 9.271,-8.89
3D body: height 7.65, standoff 7.62, extent 8.255,-9.271 8.636,-8.89
3D body: height 7.65, standoff 7.62, extent 7.62,-9.271 8.001,-8.89